# EAGLE library part WAGO_2060-403_998-404 (library lib_stankus)
WAGO WAGO_2060-403_998-404 Farnell 2102478
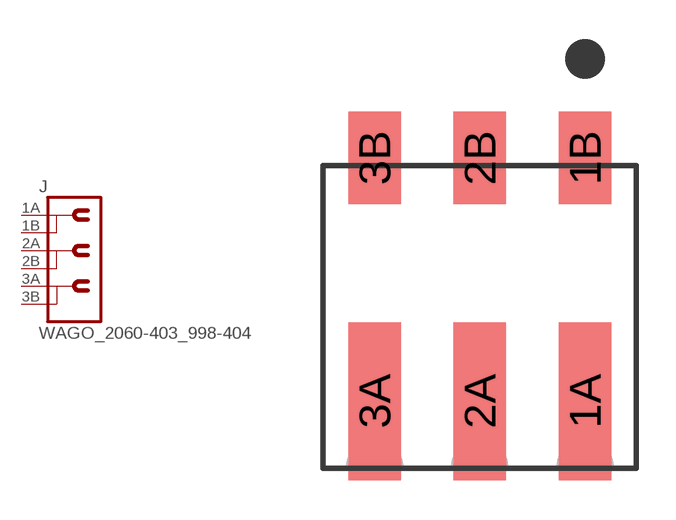
[diagram p94: symbol with the pads of WAGO_2060-403_998-404; footprint WAGO_2060-403_998-404]

Designator prefix J

## WAGO_2060-403_998-404  [WAGO_2060-403_998-404]
1A  1A  pas
1B  1B  pas
2A  2A  pas
2B  2B  pas
3A  3A  pas
3B  3B  pas

## Footprint WAGO_2060-403_998-404 (pad centres in mm)
WAGO_2060-403_998-404
smd 2 x 6: 1A 4,-4; 2A 0,-4; 3A -4,-4
smd 2 x 3.5: 1B 4,5.25; 2B 0,5.25; 3B -4,5.25